# Altium schematic symbol library Connector-SDCard.SchLib: 4 symbols
Pins are listed as number, name and electrical type; pins without a type are passive.

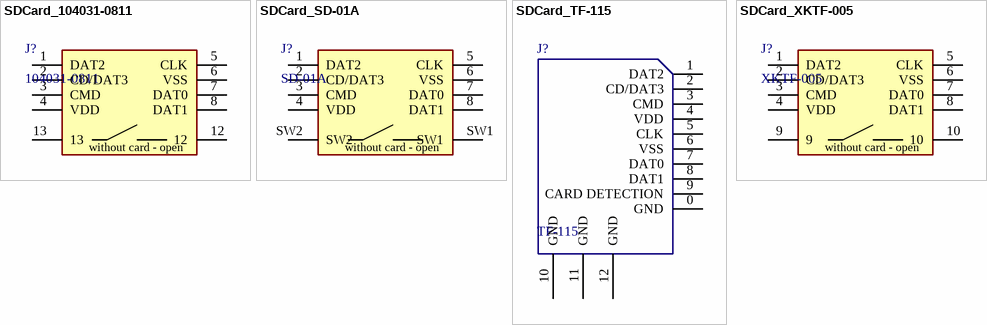
[diagram p0: symbols SDCard_104031-0811 to SDCard_XKTF-005]

## SDCard_104031-0811
designator J?, comment 104031-0811
MicroSD TF卡座; Manufacturer_Name: Molex; Manufacturer_Part_Number: 104031-0811
footprint 1040310811
pins: 1 DAT2, 2 CD/DAT3, 3 CMD, 4 VDD, 5 CLK, 6 VSS, 7 DAT0, 8 DAT1, 12, 13
text: without card - open

## SDCard_SD-01A
designator J?, comment SD-01A
MicroSD TF卡座; Manufacturer_Name: 韩国韩荣; Manufacturer_Part_Number: SD-01A; LCSC: C693845
footprint SDCard_SD-01A
pins: 1 DAT2, 2 CD/DAT3, 3 CMD, 4 VDD, 5 CLK, 6 VSS, 7 DAT0, 8 DAT1, SW1, SW2
text: without card - open

## SDCard_TF-115
designator J?, comment TF-115
MicroSD TF卡座; Manufacturer_Name: OFNG(硕方); Manufacturer_Part_Number: TF-15x15; LCSC: C111196
footprint SDCard_TF-115 (自弹式TF卡座)
pins: 0 GND, 1 DAT2, 2 CD/DAT3, 3 CMD, 4 VDD, 5 CLK, 6 VSS, 7 DAT0, 8 DAT1, 9 CARD DETECTION, 10 GND, 11 GND, 12 GND

## SDCard_XKTF-005
designator J?, comment XKTF-005
MicroSD TF卡座; Manufacturer_Name: XKB Connectivity(; Manufacturer_Part_Number: XKTF-005; LCSC: C2689687
footprint SDCard_XKTF-005
pins: 1 DAT2, 2 CD/DAT3, 3 CMD, 4 VDD, 5 CLK, 6 VSS, 7 DAT0, 8 DAT1, 9, 10
text: without card - open